# Altium footprint library MLACHN_O.PCBLIB: 23 footprints (part 1 of 2)
Each footprint in its own frame and in the unit in brackets; x right, y up, seen from the top. Pads: shape width x height; smd on the part's side, far side on the other; paste and mask are expansions set on the pad; w line width, h text height; cw(c..) or ccw(c..) is an arc to the next point about the centre after c.
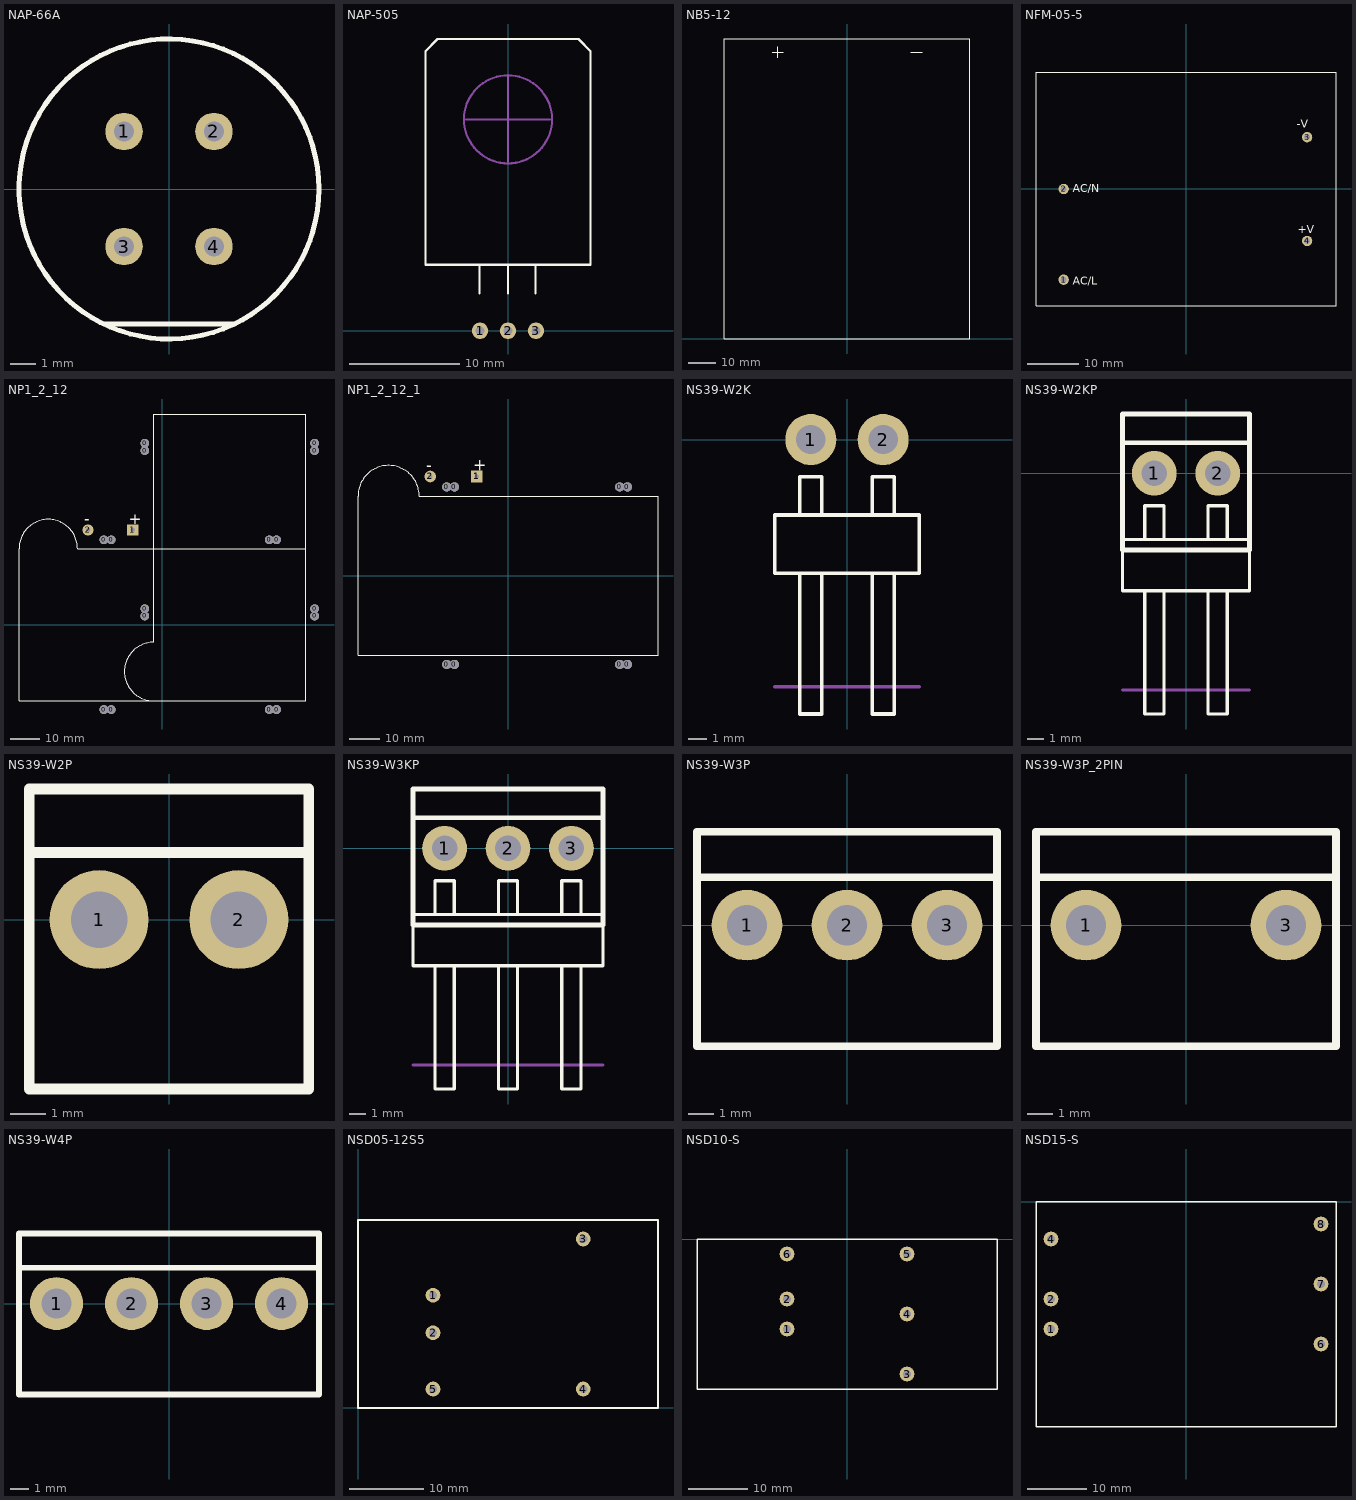
[diagram p0: the footprints below, top view; thin cyan lines are the x and y axes]

## NAP-66A [mm]
pads (4):
  round 1.5 hole 0.8: 1(-1.8,2.3) 2(1.8,2.3) 3(-1.8,-2.3) 4(1.8,-2.3)
TopOverlay:
  circle w0.2: c0,0 r6
  lines w0.2: -2.6,-5.4 2.6,-5.4
3D body: height 1, standoff 0, extent -6,-5.4 6,6
3D body: height 9.5, standoff 1, extent -6,-6 5.953,5.976

## NAP-505 [mm]
pads (3):
  round 1.5 hole 0.8: 1(-2.54,0) 2(0,0) 3(2.54,0)
TopOverlay:
  lines w0.2: -2.6,3.4 -2.6,6 ; 0,3.4 0,6 ; 2.5,3.4 2.5,6 ; -7.5,6 7.5,6 7.5,25.4 6.4,26.5 -6.4,26.5 -7.5,25.4 -7.5,6
Mechanical2:
  circle w0.2: c0,19.2 r4.001
  lines w0.2: -3.8,19.2 3.8,19.2 ; 0,15.4 0,23.1
3D body: height 1.4, standoff -1.6, extent -2.938,-0.399 -2.142,0.399
3D body: height 1.4, standoff -1.6, extent -0.398,-0.399 0.398,0.399
3D body: height 1.4, standoff -1.6, extent 2.142,-0.399 2.938,0.399
3D body: height 1.65, standoff 0.85, extent 2.142,0 2.938,5.9
3D body: height 1.65, standoff 0.85, extent -0.398,0 0.398,5.9
3D body: height 1.65, standoff 0.85, extent -2.938,0 -2.142,5.9
3D body: height 2.5, standoff 0, extent -3.825,2.9 -1.335,5.9
3D body: height 2.5, standoff 0, extent -1.285,2.9 1.205,5.9
3D body: height 2.5, standoff 0, extent 1.255,2.9 3.745,5.9
3D body: height 1, standoff 0, extent -7.5,6 7.5,26.5
3D body: height 8.2, standoff 1, extent -7.5,6 7.5,26.5
3D body: height 8.3, standoff 0, extent -4,15.208 3.968,23.192

## NB5-12 [mm]
TopOverlay:
  lines w0.2: -27.4,105.2 -23.3,105.2 ; -25.4,103.1 -25.4,107.2 ; 23.4,105.2 27.5,105.2 ; -45,0 -45,110 45,110 45,0 -45,0
3D body: height 70, standoff 0, extent -45,0 45,110

## NFM-05-5 [mm]
pads (4):
  round 2 hole 1.2: 1(-23.616,-17.5) 2(-23.616,0) 3(23.374,10.012) 4(23.374,-10.029)
TopOverlay:
  lines w0.2: -28.95,-22.5 28.95,-22.5 28.95,22.5 -28.95,22.5 -28.95,-22.5
  text "AC/L" at -21.838,-18.436 h1.52
  text "AC/N" at -21.838,-0.656 h1.52
  text "-V" at 21.342,11.79 h1.52
  text "+V" at 21.596,-8.53 h1.52
3D body: height 19.1, standoff 18.65, extent 28.5,-22.5 28.95,22.5
3D body: height 19.1, standoff 18.65, extent -28.95,-22.5 -28.5,22.5
3D body: height 19.1, standoff 18.65, extent -28.95,22.05 28.95,22.5
3D body: height 19.1, standoff 18.65, extent -28.95,-22.5 28.95,-22.05
3D body: height 19.1, standoff 6, extent -28.95,-22.5 -28.5,-22.05
3D body: height 19.1, standoff 6, extent -28.95,22.05 -28.5,22.5
3D body: height 19.1, standoff 6, extent 28.5,22.05 28.95,22.5
3D body: height 19.1, standoff 6, extent 28.5,-22.5 28.95,-22.05
3D body: height 7, standoff 6, extent 22.55,-21.2 28.526,-15.212
3D body: height 12.5, standoff 7.5, extent 23.05,-20.7 28.024,-15.721
3D body: height 10, standoff 6, extent 23.05,-20.7 28.03,-15.71
3D body: height 16, standoff 6, extent 17.85,-5.6 24.225,0.787
3D body: height 19, standoff 6, extent 15.85,11.1 24.217,19.483
3D body: height 14, standoff 6, extent -0.75,-8.7 15.75,7.8
3D body: height 8, standoff 6, extent -11.75,-7.5 -2.35,-3.7
3D body: height 16, standoff 6, extent -10.25,-16.875 -3.863,-10.5
3D body: height 16, standoff 6, extent -28.75,-16.5 -10.75,-10
3D body: height 4.5, standoff 0, extent 22.47,9.108 24.263,10.905
3D body: height 0, standoff -3, extent 22.862,9.482 23.907,10.53
3D body: height 4.5, standoff 0, extent 22.47,-10.932 24.263,-9.136
3D body: height 0, standoff -3, extent 22.862,-10.558 23.907,-9.51
3D body: height 4.5, standoff 0, extent -24.52,-0.904 -22.727,0.893
3D body: height 0, standoff -3, extent -24.128,-0.53 -23.083,0.518
3D body: height 0, standoff -3, extent -24.128,-18.03 -23.083,-16.982
3D body: height 4.5, standoff 0, extent -24.52,-18.404 -22.727,-16.607
3D body: height 6, standoff 4.5, extent -28.95,-22.5 28.95,22.5
3D body: height 18.55, standoff 6, extent -28.75,9.7 -8.75,22.275
3D body: height 11, standoff 6, extent -22.05,-21.1 -13.05,-17.1

## NP1_2_12 [mil]
pads (18):
  round 118 hole 118: 0(-787.4,-1141.73) 0(-787.4,1141.73) 0(-688.98,-1141.73) 0(-688.98,1141.73) 0(-236.22,118.11) 0(-236.22,216.53) 0(-236.22,2342.52) 0(-236.22,2440.95) 0(1437.01,-1141.73) 0(1437.01,1141.73) 0(1535.43,-1141.73) 0(1535.43,1141.73) 0(2047.24,118.11) 0(2047.24,216.53) 0(2047.24,2342.52) 0(2047.24,2440.95)
  rect 150x150 hole 60: 1(-400,1275)
  round 150 hole 60: 2(-1000,1275)
TopOverlay:
  lines w10: -118.11,2834.65 1929.13,2834.65 ; -118.11,2834.65 -118.11,-236.22 ccw(c-118.11,-629.92) -118.11,-1023.62 1929.13,-1023.62 ; -118.11,2834.65 1929.13,2834.65 ; -118.11,2834.65 1929.13,2834.65 ; 1929.13,-1023.62 1929.13,2834.65 ; 1929.13,-1023.62 -1929.13,-1023.62 -1929.13,1023.62 cw(c-1535.43,1023.62) -1141.73,1023.62 1929.13,1023.62 1929.13,-1023.62
  text "+" at -450,1350 h150
  text "-" at -1050,1350 h150

## NP1_2_12_1 [mil]
pads (10):
  round 118 hole 118: 0(-787.4,-1141.73) 0(-787.4,1141.73) 0(-688.98,-1141.73) 0(-688.98,1141.73) 0(1437.01,-1141.73) 0(1437.01,1141.73) 0(1535.43,-1141.73) 0(1535.43,1141.73)
  rect 150x150 hole 60: 1(-400,1275)
  round 150 hole 60: 2(-1000,1275)
TopOverlay:
  lines w10: -118.11,-1023.62 1929.13,-1023.62 ; 1929.13,-1023.62 1929.13,1023.62 -1141.73,1023.62 ccw(c-1535.43,1023.62) -1929.13,1023.62 -1929.13,-1023.62 1929.13,-1023.62
  text "-" at -1050,1350 h150
  text "+" at -450,1350 h150

## NS39-W2K [mm]
pads (2):
  round 2.8 hole 1.6: 1(-1.98,0) 2(1.98,0)
TopOverlay:
  lines w0.2: -2.58,-7.33 -2.58,-15.03 -1.38,-15.03 -1.38,-7.33 ; -2.58,-4.13 -2.58,-2.03 -1.38,-2.03 -1.38,-4.13 ; 1.38,-7.33 1.38,-15.03 2.58,-15.03 2.58,-7.33 ; 1.38,-4.13 1.38,-2.03 2.58,-2.03 2.58,-4.13 ; -3.96,-7.33 -3.96,-4.13 3.96,-4.13 3.96,-7.33 -3.96,-7.33
3DBody:
  lines w0.2: -3.96,-13.53 3.96,-13.53
3D body: height 5.37, standoff 4.23, extent 1.38,-15.03 2.58,0.55
3D body: height 5.37, standoff -1.5, extent 1.38,-0.55 2.58,0.55
3D body: height 5.37, standoff -1.5, extent -2.58,-0.55 -1.38,0.55
3D body: height 5.37, standoff 4.23, extent -2.58,-15.03 -1.38,0.55
3D body: height 8.5, standoff 0, extent -3.96,-7.33 3.96,-4.13
3D body: height 8.5, standoff 7, extent -3.96,-13.53 3.96,-4.13

## NS39-W2KP [mm]
pads (2):
  round 2.8 hole 1.6: 1(-1.98,0) 2(1.98,0)
TopOverlay:
  lines w0.2: -2.58,-7.33 -2.58,-15.03 -1.38,-15.03 -1.38,-7.33 ; -2.58,-4.13 -2.58,-2.03 -1.38,-2.03 -1.38,-4.13 ; 1.38,-7.33 1.38,-15.03 2.58,-15.03 2.58,-7.33 ; 1.38,-4.13 1.38,-2.03 2.58,-2.03 2.58,-4.13 ; -3.96,-7.33 3.96,-7.33 3.96,-4.13 -3.96,-4.13 -3.96,-7.33
  lines w0.3: -3.96,1.9 3.96,1.9 ; -3.96,-4.8 -3.96,3.7 3.96,3.7 3.96,-4.8 -3.96,-4.8
3DBody:
  lines w0.2: -3.96,-13.53 3.96,-13.53
3D body: height 14.65, standoff -3.75, extent 1.38,-0.55 2.58,0.55
3D body: height 14.65, standoff -3.75, extent -2.58,-0.55 -1.38,0.55
3D body: height 3.2, standoff 0, extent -3.96,-4.8 3.96,3.2
3D body: height 7.3, standoff 0, extent -3.96,1.9 3.96,3.2
3D body: height 9.4, standoff 7.3, extent -4.01,1.9 3.91,3.65
3D body: height 8.5, standoff 7, extent -3.96,-13.53 3.96,-4.13
3D body: height 8.5, standoff 0, extent -3.96,-7.33 3.96,-4.13
3D body: height 5.37, standoff 4.23, extent -2.58,-15.03 -1.38,0.55
3D body: height 5.37, standoff -1.5, extent -2.58,-0.55 -1.38,0.55
3D body: height 5.37, standoff -1.5, extent 1.38,-0.55 2.58,0.55
3D body: height 5.37, standoff 4.23, extent 1.38,-15.03 2.58,0.55

## NS39-W2P [mm]
pads (2):
  round 2.8 hole 1.6: 1(-1.98,0) 2(1.98,0)
TopOverlay:
  lines w0.3: -3.96,1.9 3.96,1.9 ; -3.96,-4.8 -3.96,3.7 3.96,3.7 3.96,-4.8 -3.96,-4.8
3D body: height 14.65, standoff -3.75, extent 1.38,-0.55 2.58,0.55
3D body: height 14.65, standoff -3.75, extent -2.58,-0.55 -1.38,0.55
3D body: height 3.2, standoff 0, extent -3.96,-4.8 3.96,3.2
3D body: height 7.3, standoff 0, extent -3.96,1.9 3.96,3.2
3D body: height 9.4, standoff 7.3, extent -4.01,1.9 3.91,3.65

## NS39-W3KP [mm]
pads (3):
  round 2.8 hole 1.6: 1(-3.96,0) 2(0,0) 3(3.96,0)
TopOverlay:
  lines w0.2: -4.56,-7.33 -4.56,-15.03 -3.36,-15.03 -3.36,-7.33 ; -4.56,-4.13 -4.56,-2.03 -3.36,-2.03 -3.36,-4.13 ; -0.6,-7.33 -0.6,-15.03 0.6,-15.03 0.6,-7.33 ; -0.6,-4.13 -0.6,-2.03 0.6,-2.03 0.6,-4.13 ; 3.36,-7.33 3.36,-15.03 4.56,-15.03 4.56,-7.33 ; 3.36,-4.13 3.36,-2.03 4.56,-2.03 4.56,-4.13 ; -5.94,-7.33 -5.94,-4.13 5.94,-4.13 5.94,-7.33 -5.94,-7.33
  lines w0.3: -5.94,1.9 5.94,1.9 ; -5.94,-4.8 5.94,-4.8 5.94,3.7 -5.94,3.7 -5.94,-4.8
3DBody:
  lines w0.2: -5.94,-13.53 5.94,-13.53
3D body: height 5.37, standoff 4.23, extent -0.6,-15.03 0.6,0.55
3D body: height 5.37, standoff -1.5, extent -0.6,-0.55 0.6,0.55
3D body: height 5.37, standoff -1.5, extent -4.56,-0.55 -3.36,0.55
3D body: height 5.37, standoff 4.23, extent -4.56,-15.03 -3.36,0.55
3D body: height 8.5, standoff 0, extent -5.94,-7.33 5.94,-4.13
3D body: height 8.5, standoff 7, extent -5.94,-13.53 5.94,-4.13
3D body: height 9.4, standoff 7.3, extent -5.99,1.9 5.94,3.65
3D body: height 7.3, standoff 0, extent -5.94,1.9 5.94,3.2
3D body: height 3.2, standoff 0, extent -5.94,-4.8 5.94,3.2
3D body: height 14.65, standoff -3.75, extent -4.56,-0.55 -3.36,0.55
3D body: height 14.65, standoff -3.75, extent -0.6,-0.55 0.6,0.55
3D body: height 14.65, standoff -3.75, extent 3.36,-0.55 4.56,0.55
3D body: height 5.37, standoff 4.23, extent 3.36,-15.03 4.56,0.55

## NS39-W3P [mm]
pads (3):
  round 2.8 hole 1.6: 1(-3.96,0) 2(0,0) 3(3.96,0)
TopOverlay:
  lines w0.3: -5.94,1.9 5.94,1.9 ; -5.94,-4.8 5.94,-4.8 5.94,3.7 -5.94,3.7 -5.94,-4.8
3D body: height 9.4, standoff 7.3, extent -5.99,1.9 5.94,3.65
3D body: height 7.3, standoff 0, extent -5.94,1.9 5.94,3.2
3D body: height 3.2, standoff 0, extent -5.94,-4.8 5.94,3.2
3D body: height 14.65, standoff -3.75, extent -4.56,-0.55 -3.36,0.55
3D body: height 14.65, standoff -3.75, extent -0.6,-0.55 0.6,0.55
3D body: height 14.65, standoff -3.75, extent 3.36,-0.55 4.56,0.55

## NS39-W3P_2PIN [mm]
pads (2):
  round 2.8 hole 1.6: 1(-3.96,0) 3(3.96,0)
TopOverlay:
  lines w0.3: -5.94,1.9 5.94,1.9 ; -5.94,-4.8 5.94,-4.8 5.94,3.7 -5.94,3.7 -5.94,-4.8
3D body: height 9.4, standoff 7.3, extent -5.99,1.9 5.94,3.65
3D body: height 7.3, standoff 0, extent -5.94,1.9 5.94,3.2
3D body: height 3.2, standoff 0, extent -5.94,-4.8 5.94,3.2
3D body: height 14.65, standoff -3.75, extent -4.56,-0.55 -3.36,0.55
3D body: height 14.65, standoff -3.75, extent 3.36,-0.55 4.56,0.55

## NS39-W4P [mm]
pads (4):
  round 2.8 hole 1.6: 1(-5.94,0) 2(-1.98,0) 3(1.98,0) 4(5.94,0)
TopOverlay:
  lines w0.3: -7.92,1.9 7.92,1.9 ; -7.92,-4.8 7.92,-4.8 7.92,3.7 -7.92,3.7 -7.92,-4.8
3D body: height 9.4, standoff 7.3, extent -7.97,1.9 7.92,3.65
3D body: height 7.3, standoff 0, extent -7.92,1.9 7.92,3.2
3D body: height 3.2, standoff 0, extent -7.92,-4.8 7.92,3.2
3D body: height 14.65, standoff -3.75, extent -6.54,-0.55 -5.34,0.55
3D body: height 14.65, standoff -3.75, extent -2.58,-0.55 -1.38,0.55
3D body: height 14.65, standoff -3.75, extent 1.38,-0.55 2.58,0.55
3D body: height 14.65, standoff -3.75, extent 5.34,-0.55 6.54,0.55

## NSD05-12S5 [mm]
pads (5):
  round 2 hole 1.1: 1(10.16,15.24) 2(10.16,10.16) 3(30.48,22.86) 4(30.48,2.54) 5(10.16,2.54)
TopOverlay:
  lines w0.25: 0,0 0,25.4 40.6,25.4 40.6,0 0,0
3D body: height 1.6, standoff -3, extent 29.98,2.04 30.98,3.04
3D body: height 1.6, standoff -3, extent 29.98,22.36 30.98,23.36
3D body: height 1.6, standoff -3, extent 9.66,14.74 10.66,15.74
3D body: height 1.6, standoff -3, extent 9.66,9.66 10.66,10.66
3D body: height 1.6, standoff -3, extent 9.66,2.04 10.66,3.04
3D body: height 2.3, standoff 1.5, extent 0,0 40.6,25.4
3D body: height 8.3, standoff 2.2, extent 16.8,8.1 25.4,15.8

## NSD10-S [mm]
pads (6):
  round 2.5 hole 1.3: 1(-10.16,-15.24) 2(-10.16,-10.16) 3(10.16,-22.86) 4(10.16,-12.7) 5(10.16,-2.54) 6(-10.16,-2.54)
TopOverlay:
  lines w0.25: -25.4,-25.4 25.4,-25.4 25.4,0 -25.4,0 -25.4,-25.4
3D body: height 10.01, standoff 6.1, extent -25.4,-25.4 25.4,0
3D body: height 8, standoff 0, extent -11.109,-16.192 -9.211,-14.291
3D body: height 8, standoff 0, extent -11.109,-11.112 -9.211,-9.211
3D body: height 8, standoff 0, extent -11.109,-3.492 -9.211,-1.591
3D body: height 8, standoff 0, extent 9.211,-3.492 11.109,-1.591
3D body: height 8, standoff 0, extent 9.211,-13.652 11.109,-11.751
3D body: height 8, standoff 0, extent 9.211,-23.812 11.109,-21.911

## NSD15-S [mm]
pads (6):
  round 2.5 hole 1.3: 1(-22.86,-21.59) 2(-22.86,-16.51) 4(-22.86,-6.35) 6(22.86,-24.13) 7(22.86,-13.97) 8(22.86,-3.81)
TopOverlay:
  lines w0.25: -25.4,-38.1 25.4,-38.1 25.4,0 -25.4,0 -25.4,-38.1
3D body: height 9.83, standoff 6.1, extent -25.4,-38.1 25.4,0
3D body: height 8, standoff 0, extent -23.809,-7.302 -21.911,-5.401
3D body: height 8, standoff 0, extent -23.809,-17.462 -21.911,-15.561
3D body: height 8, standoff 0, extent -23.809,-22.543 -21.911,-20.641
3D body: height 8, standoff 0, extent 21.911,-25.082 23.809,-23.181
3D body: height 8, standoff 0, extent 21.911,-14.922 23.809,-13.021
3D body: height 8, standoff 0, extent 21.911,-4.763 23.809,-2.861